# Altium schematic symbol library BASIC Devices.SCHLIB: 311 symbols
Pins are listed as number, name and electrical type; pins without a type are passive.

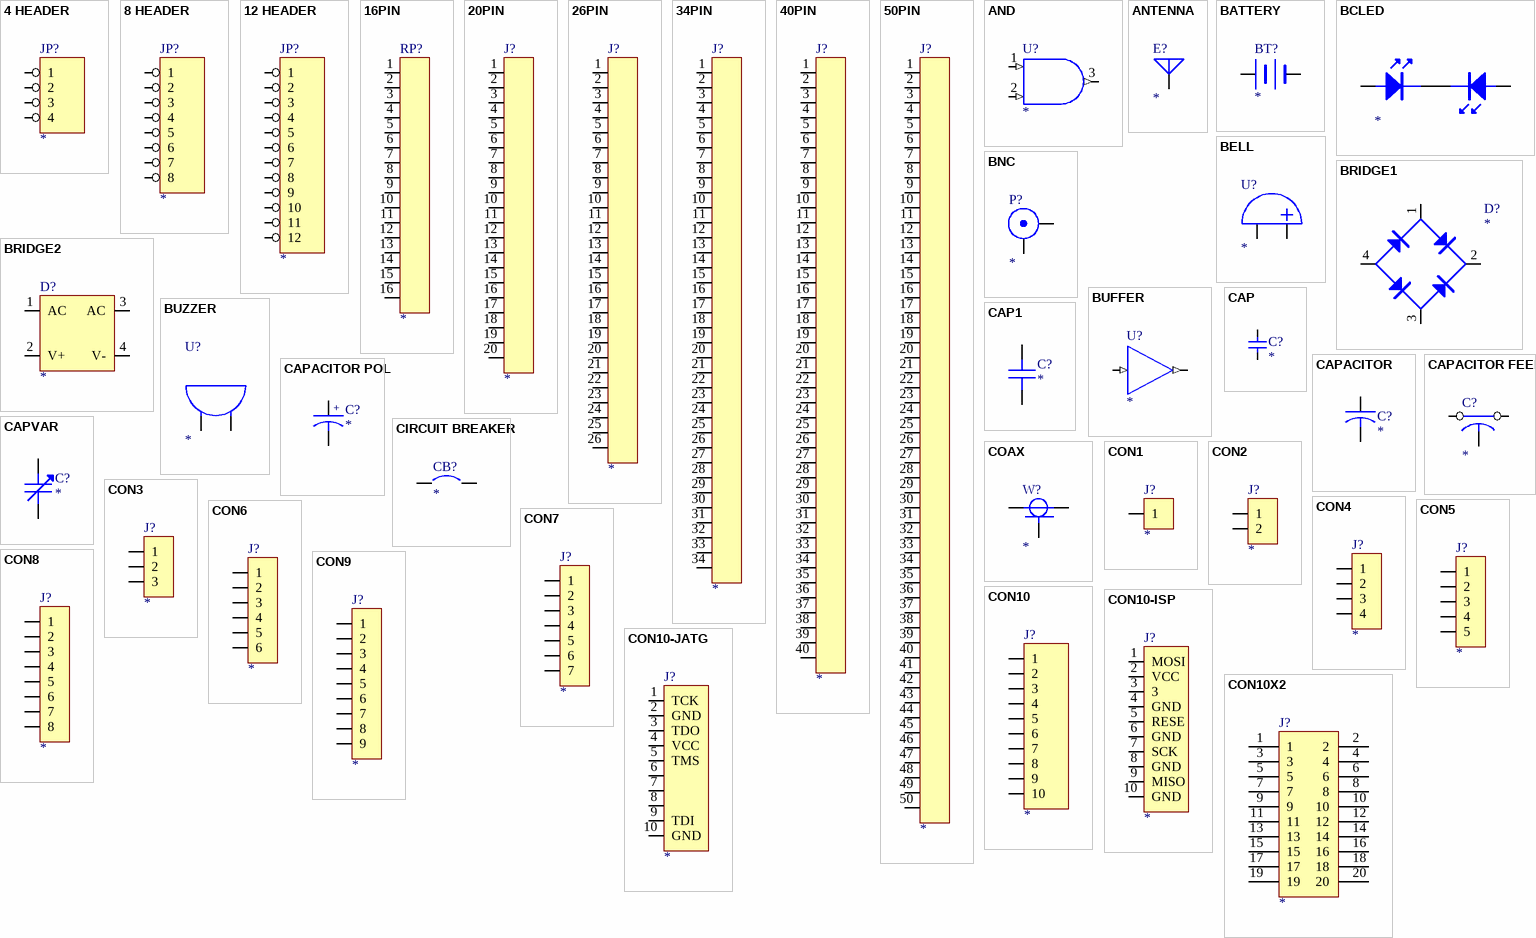
[diagram p0: symbols 4 HEADER to CON10X2]

## 4 HEADER
designator JP?
4 Pin Header
pins: 1, 2, 3, 4
2 alternate drawings of the same symbol

## 8 HEADER
designator JP?
8 Pin Header
pins: 1, 2, 3, 4, 5, 6, 7, 8
2 alternate drawings of the same symbol

## 12 HEADER
designator JP?
12 Pin Header
pins: 1, 2, 3, 4, 5, 6, 7, 8, 9, 10, 11, 12
2 alternate drawings of the same symbol

## 16PIN
designator RP?
footprint IDC16
pins: 1, 2, 3, 4, 5, 6, 7, 8, 9, 10, 11, 12, 13, 14, 15, 16
2 alternate drawings of the same symbol

## 20PIN
designator J?
footprint IDC20
pins: 1, 2, 3, 4, 5, 6, 7, 8, 9, 10, 11, 12, 13, 14, 15, 16, 17, 18, 19, 20
2 alternate drawings of the same symbol

## 26PIN
designator J?
footprint IDC26
pins: 1, 2, 3, 4, 5, 6, 7, 8, 9, 10, 11, 12, 13, 14, 15, 16, 17, 18, 19, 20, 21, 22, 23, 24, 25, 26
2 alternate drawings of the same symbol

## 34PIN
designator J?
footprint IDC34
pins: 1, 2, 3, 4, 5, 6, 7, 8, 9, 10, 11, 12, 13, 14, 15, 16, 17, 18, 19, 20, 21, 22, 23, 24, 25, 26, 27, 28, 29, 30, 31, 32, 33, 34
2 alternate drawings of the same symbol

## 40PIN
designator J?
footprint IDC40
pins: 1, 2, 3, 4, 5, 6, 7, 8, 9, 10, 11, 12, 13, 14, 15, 16, 17, 18, 19, 20, 21, 22, 23, 24, 25, 26, 27, 28, 29, 30, 31, 32, 33, 34, 35, 36, 37, 38, 39, 40
2 alternate drawings of the same symbol

## 50PIN
designator J?
footprint IDC50
pins: 1, 2, 3, 4, 5, 6, 7, 8, 9, 10, 11, 12, 13, 14, 15, 16, 17, 18, 19, 20, 21, 22, 23, 24, 25, 26, 27, 28, 29, 30, 31, 32, 33, 34, 35, 36, 37, 38, 39, 40, 41, 42, 43, 44, 45, 46, 47, 48, 49, 50
2 alternate drawings of the same symbol

## AND
designator U?
AND Gate
pins: 1 A (in), 2 B (in), 3 Y (out)
2 alternate drawings of the same symbol

## ANTENNA
designator E?
Generic Antenna
pins: 1 A
2 alternate drawings of the same symbol

## BATTERY
designator BT?
Battery
pins: 1 +, 2 -
2 alternate drawings of the same symbol

## BCLED
designator ?
pins: 1, 2, 2, 3
2 alternate drawings of the same symbol

## BELL
designator U?
Bell
footprint BELL
pins: 1 A, 2 B
2 alternate drawings of the same symbol

## BNC
designator P?
BNC Connector
pins: 1 X, 2 Y
2 alternate drawings of the same symbol

## BRIDGE1
designator D?
Diode Bridge
footprint ZLQQ1
footprint BRIDGE
pins: 1 AC, 2 V+, 3 AC, 4 V-
2 alternate drawings of the same symbol

## BRIDGE2
designator D?
Diode Bridge
footprint BRIDGE
pins: 1 AC, 2 V+, 3 AC, 4 V-
2 alternate drawings of the same symbol

## BUFFER
designator U?
Buffer
pins: 1 A (in), 2 Y (out)
2 alternate drawings of the same symbol

## BUZZER
designator U?
Buzzer
pins: 1 A, 2 B
2 alternate drawings of the same symbol

## CAP
designator C?
Capacitor
footprint CAP3
footprint CAP4
footprint 0805
footprint 1206
pins: 1, 2
2 alternate drawings of the same symbol

## CAP1
designator C?
footprint CAP3
footprint CAP4
footprint 0805
footprint 1206
pins: 1, 2
2 alternate drawings of the same symbol

## CAPACITOR
designator C?
Capacitor
pins: 1, 2
2 alternate drawings of the same symbol

## CAPACITOR FEED
designator C?
Feed-Through Capacitor
pins: 1, 2, 3
2 alternate drawings of the same symbol

## CAPACITOR POL
designator C?
Capacitor
footprint RB2/4
footprint RB3/6
footprint RB4/8
footprint RB5/10
pins: 1, 2
2 alternate drawings of the same symbol
text: +

## CAPVAR
designator C?
Variable Capacitor
pins: 1, 2
2 alternate drawings of the same symbol

## CIRCUIT BREAKER
designator CB?
Circuit Breaker
pins: 1, 2
2 alternate drawings of the same symbol

## COAX
designator W?
Coaxial
pins: 1 CENTER 1, 2 CENTER 2, 3 SHIELD
2 alternate drawings of the same symbol

## CON1
designator J?
Connector
footprint SIP1
pins: 1
2 alternate drawings of the same symbol

## CON2
designator J?
Connector
footprint SIP2
footprint SIP2D
footprint SIP2J
pins: 1, 2
2 alternate drawings of the same symbol

## CON3
designator J?
Connector
footprint SIP3
footprint SIP3J
pins: 1, 2, 3
2 alternate drawings of the same symbol

## CON4
designator J?
Connector
footprint SIP4
pins: 1, 2, 3, 4
2 alternate drawings of the same symbol

## CON5
designator J?
Connector
footprint SIP5
pins: 1, 2, 3, 4, 5
2 alternate drawings of the same symbol

## CON6
designator J?
Connector
footprint SIP6
pins: 1, 2, 3, 4, 5, 6
2 alternate drawings of the same symbol

## CON7
designator J?
Connector
footprint SIP7
pins: 1, 2, 3, 4, 5, 6, 7
2 alternate drawings of the same symbol

## CON8
designator J?
Connector
footprint SIP8
pins: 1, 2, 3, 4, 5, 6, 7, 8
2 alternate drawings of the same symbol

## CON9
designator J?
Connector
footprint SIP9
pins: 1, 2, 3, 4, 5, 6, 7, 8, 9
2 alternate drawings of the same symbol

## CON10
designator J?
Connector
footprint SIP10
pins: 1, 2, 3, 4, 5, 6, 7, 8, 9, 10
2 alternate drawings of the same symbol

## CON10-ISP
designator J?
footprint IDC10
footprint IDC10W
pins: 1 MOSI, 2 VCC, 3, 4 GND, 5 RESE, 6 GND, 7 SCK, 8 GND, 9 MISO, 10 GND
2 alternate drawings of the same symbol

## CON10-JATG
designator J?
footprint IDC10
footprint IDC10W
pins: 1 TCK, 2 GND, 3 TDO, 4 VCC, 5 TMS, 6, 7, 8, 9 TDI, 10 GND
2 alternate drawings of the same symbol

## CON10X2
designator J?
footprint IDC20J
pins: 1, 2, 3, 4, 5, 6, 7, 8, 9, 10, 11, 12, 13, 14, 15, 16, 17, 18, 19, 20
2 alternate drawings of the same symbol

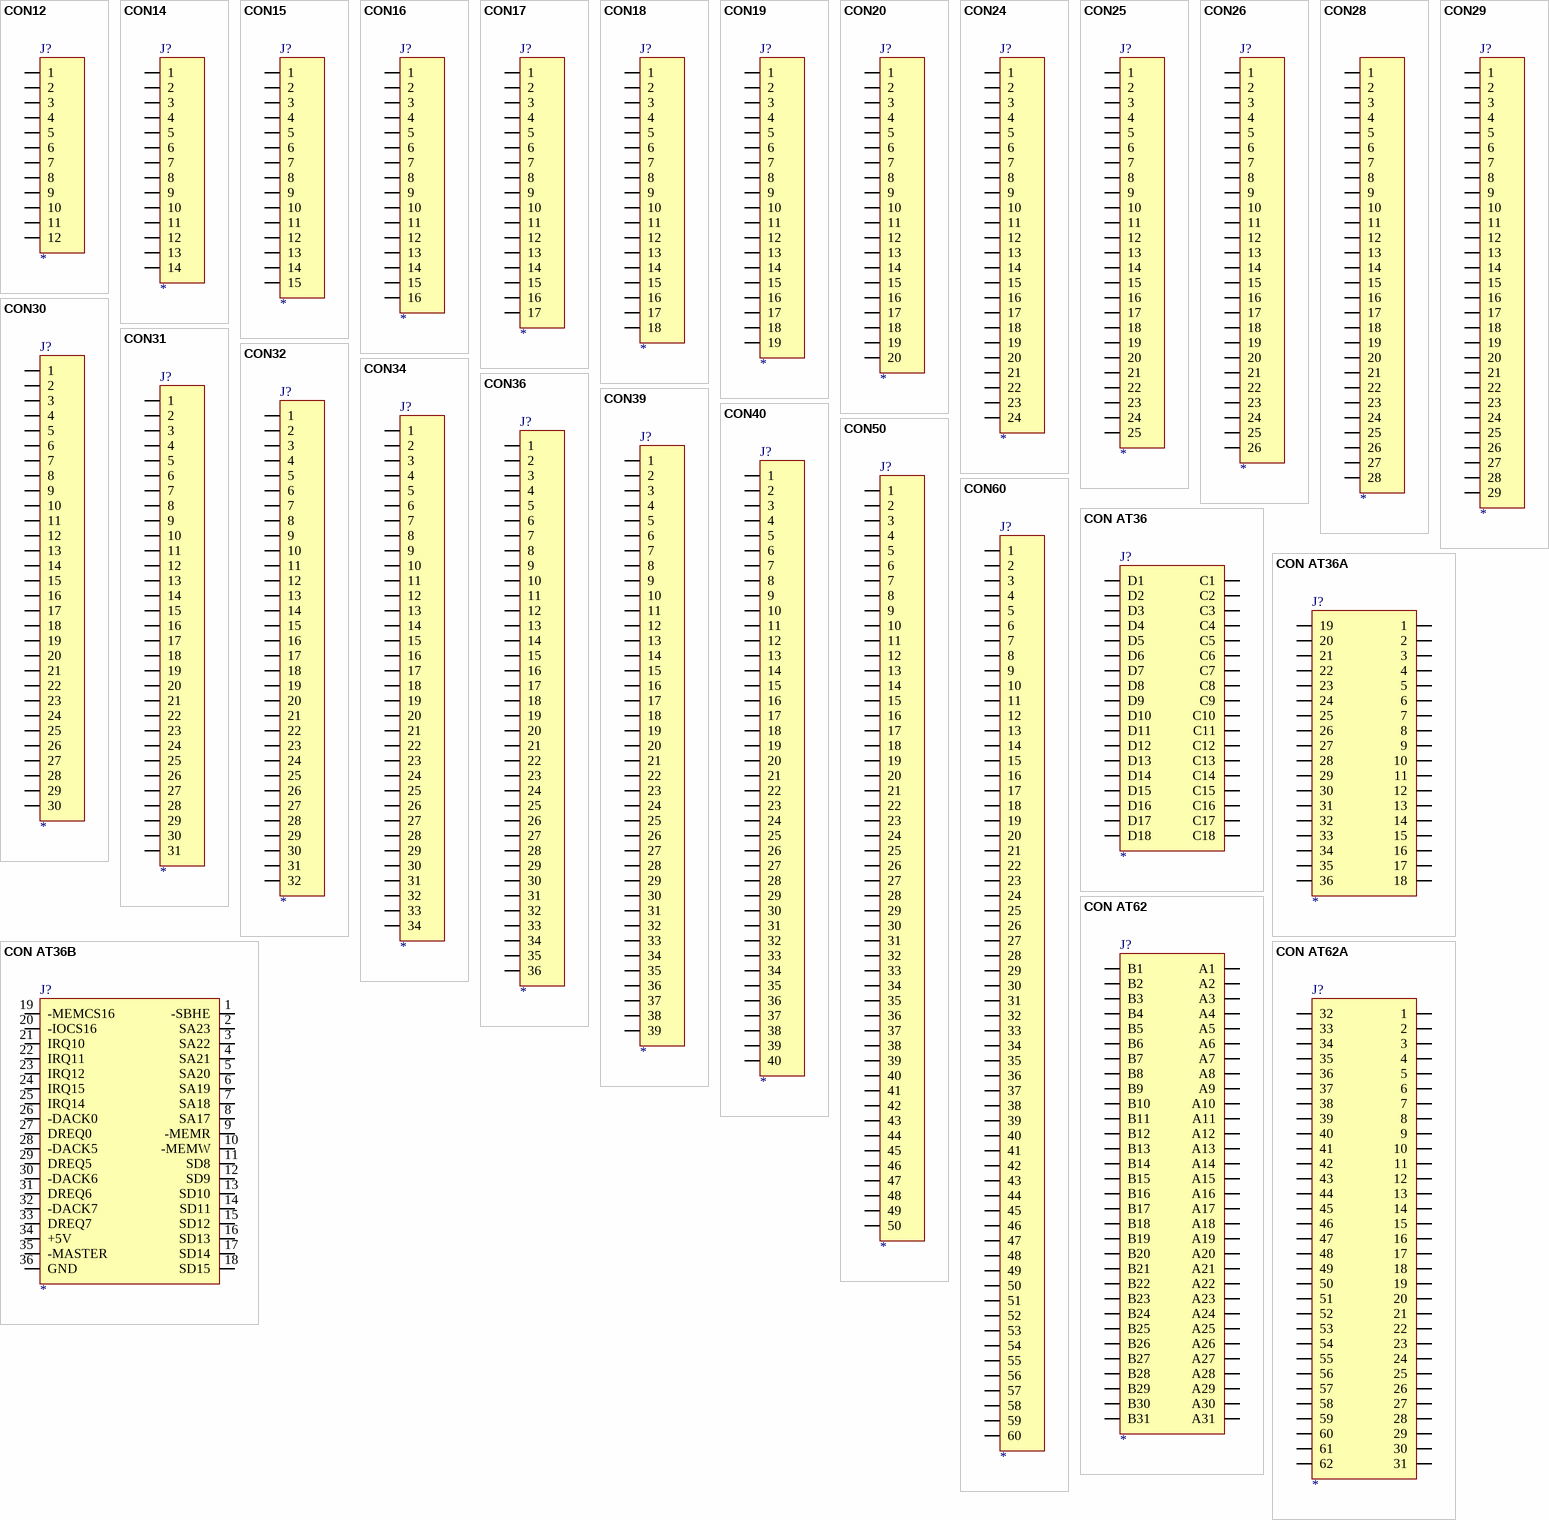
[diagram p1: symbols CON12 to CON AT62A]

## CON12
designator J?
Connector
footprint SIP12
pins: 1, 2, 3, 4, 5, 6, 7, 8, 9, 10, 11, 12
2 alternate drawings of the same symbol

## CON14
designator J?
Connector
footprint SIP14
pins: 1, 2, 3, 4, 5, 6, 7, 8, 9, 10, 11, 12, 13, 14
2 alternate drawings of the same symbol

## CON15
designator J?
Connector
footprint SIP15
pins: 1, 2, 3, 4, 5, 6, 7, 8, 9, 10, 11, 12, 13, 14, 15
2 alternate drawings of the same symbol

## CON16
designator J?
Connector
footprint SIP16
pins: 1, 2, 3, 4, 5, 6, 7, 8, 9, 10, 11, 12, 13, 14, 15, 16
2 alternate drawings of the same symbol

## CON17
designator J?
Connector
footprint SIP17
pins: 1, 2, 3, 4, 5, 6, 7, 8, 9, 10, 11, 12, 13, 14, 15, 16, 17
2 alternate drawings of the same symbol

## CON18
designator J?
Connector
footprint SIP18
pins: 1, 2, 3, 4, 5, 6, 7, 8, 9, 10, 11, 12, 13, 14, 15, 16, 17, 18
2 alternate drawings of the same symbol

## CON19
designator J?
Connector
footprint SIP19
pins: 1, 2, 3, 4, 5, 6, 7, 8, 9, 10, 11, 12, 13, 14, 15, 16, 17, 18, 19
2 alternate drawings of the same symbol

## CON20
designator J?
Connector
footprint SIP20
pins: 1, 2, 3, 4, 5, 6, 7, 8, 9, 10, 11, 12, 13, 14, 15, 16, 17, 18, 19, 20
2 alternate drawings of the same symbol

## CON24
designator J?
Connector
pins: 1, 2, 3, 4, 5, 6, 7, 8, 9, 10, 11, 12, 13, 14, 15, 16, 17, 18, 19, 20, 21, 22, 23, 24
2 alternate drawings of the same symbol

## CON25
designator J?
Connector
pins: 1, 2, 3, 4, 5, 6, 7, 8, 9, 10, 11, 12, 13, 14, 15, 16, 17, 18, 19, 20, 21, 22, 23, 24, 25
2 alternate drawings of the same symbol

## CON26
designator J?
Connector
pins: 1, 2, 3, 4, 5, 6, 7, 8, 9, 10, 11, 12, 13, 14, 15, 16, 17, 18, 19, 20, 21, 22, 23, 24, 25, 26
2 alternate drawings of the same symbol

## CON28
designator ?
pins: 1, 2, 3, 4, 5, 6, 7, 8, 9, 10, 11, 12, 13, 14, 15, 16, 17, 18, 19, 20, 21, 22, 23, 24, 25, 26, 27, 28
2 alternate drawings of the same symbol

## CON29
designator J?
Connector
pins: 1, 2, 3, 4, 5, 6, 7, 8, 9, 10, 11, 12, 13, 14, 15, 16, 17, 18, 19, 20, 21, 22, 23, 24, 25, 26, 27, 28, 29
2 alternate drawings of the same symbol

## CON30
designator J?
Connector
pins: 1, 2, 3, 4, 5, 6, 7, 8, 9, 10, 11, 12, 13, 14, 15, 16, 17, 18, 19, 20, 21, 22, 23, 24, 25, 26, 27, 28, 29, 30
2 alternate drawings of the same symbol

## CON31
designator J?
Connector
pins: 1, 2, 3, 4, 5, 6, 7, 8, 9, 10, 11, 12, 13, 14, 15, 16, 17, 18, 19, 20, 21, 22, 23, 24, 25, 26, 27, 28, 29, 30, 31
2 alternate drawings of the same symbol

## CON32
designator J?
Connector
pins: 1, 2, 3, 4, 5, 6, 7, 8, 9, 10, 11, 12, 13, 14, 15, 16, 17, 18, 19, 20, 21, 22, 23, 24, 25, 26, 27, 28, 29, 30, 31, 32
2 alternate drawings of the same symbol

## CON34
designator J?
Connector
pins: 1, 2, 3, 4, 5, 6, 7, 8, 9, 10, 11, 12, 13, 14, 15, 16, 17, 18, 19, 20, 21, 22, 23, 24, 25, 26, 27, 28, 29, 30, 31, 32, 33, 34
2 alternate drawings of the same symbol

## CON36
designator J?
Connector
pins: 1, 2, 3, 4, 5, 6, 7, 8, 9, 10, 11, 12, 13, 14, 15, 16, 17, 18, 19, 20, 21, 22, 23, 24, 25, 26, 27, 28, 29, 30, 31, 32, 33, 34, 35, 36
2 alternate drawings of the same symbol

## CON39
designator J?
Connector
pins: 1, 2, 3, 4, 5, 6, 7, 8, 9, 10, 11, 12, 13, 14, 15, 16, 17, 18, 19, 20, 21, 22, 23, 24, 25, 26, 27, 28, 29, 30, 31, 32, 33, 34, 35, 36, 37, 38, 39
2 alternate drawings of the same symbol

## CON40
designator J?
Connector
pins: 1, 2, 3, 4, 5, 6, 7, 8, 9, 10, 11, 12, 13, 14, 15, 16, 17, 18, 19, 20, 21, 22, 23, 24, 25, 26, 27, 28, 29, 30, 31, 32, 33, 34, 35, 36, 37, 38, 39, 40
2 alternate drawings of the same symbol

## CON50
designator J?
Connector
pins: 1, 2, 3, 4, 5, 6, 7, 8, 9, 10, 11, 12, 13, 14, 15, 16, 17, 18, 19, 20, 21, 22, 23, 24, 25, 26, 27, 28, 29, 30, 31, 32, 33, 34, 35, 36, 37, 38, 39, 40, 41, 42, 43, 44, 45, 46, 47, 48, 49, 50
2 alternate drawings of the same symbol

## CON60
designator J?
Connector
pins: 1, 2, 3, 4, 5, 6, 7, 8, 9, 10, 11, 12, 13, 14, 15, 16, 17, 18, 19, 20, 21, 22, 23, 24, 25, 26, 27, 28, 29, 30, 31, 32, 33, 34, 35, 36, 37, 38, 39, 40, 41, 42, 43, 44, 45, 46, 47, 48, 49, 50, 51, 52, 53, 54, 55, 56, 57, 58, 59, 60
2 alternate drawings of the same symbol

## CON AT36
designator J?
36 Pin AT Connector
pins: C1, C2, C3, C4, C5, C6, C7, C8, C9, C10, C11, C12, C13, C14, C15, C16, C17, C18, D1, D2, D3, D4, D5, D6, D7, D8, D9, D10, D11, D12, D13, D14, D15, D16, D17, D18
2 alternate drawings of the same symbol

## CON AT36A
designator J?
36 Pin AT Connector
pins: 1, 2, 3, 4, 5, 6, 7, 8, 9, 10, 11, 12, 13, 14, 15, 16, 17, 18, 19, 20, 21, 22, 23, 24, 25, 26, 27, 28, 29, 30, 31, 32, 33, 34, 35, 36
2 alternate drawings of the same symbol

## CON AT36B
designator J?
36 Pin AT Connector
pins: 1 -SBHE, 2 SA23, 3 SA22, 4 SA21, 5 SA20, 6 SA19, 7 SA18, 8 SA17, 9 -MEMR, 10 -MEMW, 11 SD8, 12 SD9, 13 SD10, 14 SD11, 15 SD12, 16 SD13, 17 SD14, 18 SD15, 19 -MEMCS16, 20 -IOCS16, 21 IRQ10, 22 IRQ11, 23 IRQ12, 24 IRQ15, 25 IRQ14, 26 -DACK0, 27 DREQ0, 28 -DACK5, 29 DREQ5, 30 -DACK6, 31 DREQ6, 32 -DACK7, 33 DREQ7, 34 +5V, 35 -MASTER, 36 GND
2 alternate drawings of the same symbol

## CON AT62
designator J?
62 Pin AT Connector
pins: A1, A2, A3, A4, A5, A6, A7, A8, A9, A10, A11, A12, A13, A14, A15, A16, A17, A18, A19, A20, A21, A22, A23, A24, A25, A26, A27, A28, A29, A30, A31, B1, B2, B3, B4, B5, B6, B7, B8, B9, B10, B11, B12, B13, B14, B15, B16, B17, B18, B19, B20, B21, B22, B23, B24, B25, B26, B27, B28, B29, B30, B31
2 alternate drawings of the same symbol

## CON AT62A
designator J?
62 Pin AT Connector
pins: 1, 2, 3, 4, 5, 6, 7, 8, 9, 10, 11, 12, 13, 14, 15, 16, 17, 18, 19, 20, 21, 22, 23, 24, 25, 26, 27, 28, 29, 30, 31, 32, 33, 34, 35, 36, 37, 38, 39, 40, 41, 42, 43, 44, 45, 46, 47, 48, 49, 50, 51, 52, 53, 54, 55, 56, 57, 58, 59, 60, 61, 62
2 alternate drawings of the same symbol

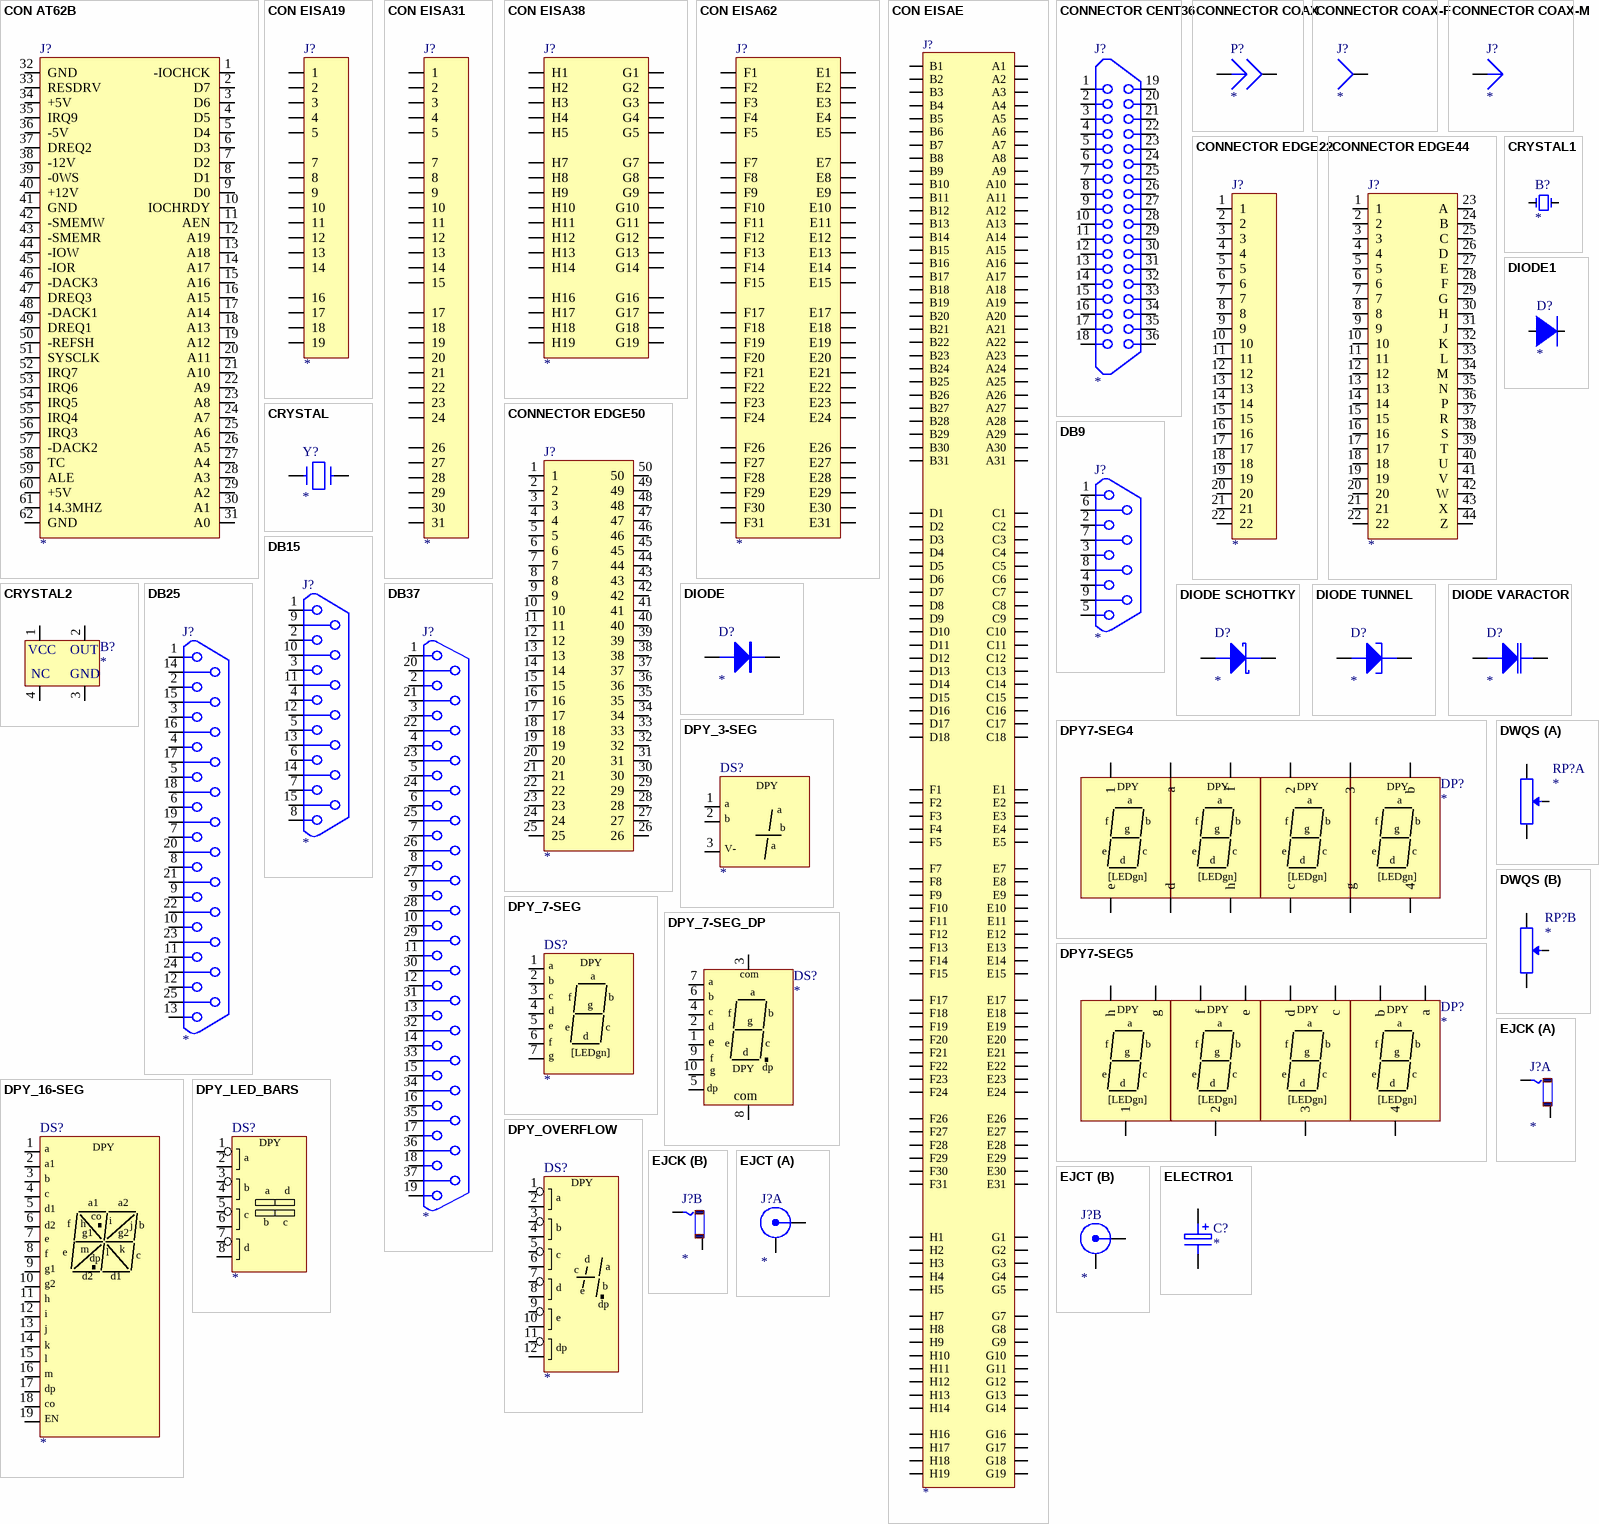
[diagram p2: symbols CON AT62B to ELECTRO1]

## CON AT62B
designator J?
62 Pin AT Connector
pins: 1 -IOCHCK, 2 D7, 3 D6, 4 D5, 5 D4, 6 D3, 7 D2, 8 D1, 9 D0, 10 IOCHRDY, 11 AEN, 12 A19, 13 A18, 14 A17, 15 A16, 16 A15, 17 A14, 18 A13, 19 A12, 20 A11, 21 A10, 22 A9, 23 A8, 24 A7, 25 A6, 26 A5, 27 A4, 28 A3, 29 A2, 30 A1, 31 A0, 32 GND, 33 RESDRV, 34 +5V, 35 IRQ9, 36 -5V, 37 DREQ2, 38 -12V, 39 -0WS, 40 +12V, 41 GND, 42 -SMEMW, 43 -SMEMR, 44 -IOW, 45 -IOR, 46 -DACK3, 47 DREQ3, 48 -DACK1, 49 DREQ1, 50 -REFSH, 51 SYSCLK, 52 IRQ7, 53 IRQ6, 54 IRQ5, 55 IRQ4, 56 IRQ3, 57 -DACK2, 58 TC, 59 ALE, 60 +5V, 61 14.3MHZ, 62 GND
2 alternate drawings of the same symbol

## CON EISA19
designator J?
19 Pin EISA Connector
pins: 1, 2, 3, 4, 5, 7, 8, 9, 10, 11, 12, 13, 14, 16, 17, 18, 19
2 alternate drawings of the same symbol

## CON EISA31
designator J?
31 Pin EISA Connector
pins: 1, 2, 3, 4, 5, 7, 8, 9, 10, 11, 12, 13, 14, 15, 17, 18, 19, 20, 21, 22, 23, 24, 26, 27, 28, 29, 30, 31
2 alternate drawings of the same symbol

## CON EISA38
designator J?
38 Pin EISA Connector; Text Field1: Pins 6, 15, 25 & 34 are not connected;
pins: 1 H1, 2 H2, 3 H3, 4 H4, 5 H5, 7 H7, 8 H8, 9 H9, 10 H10, 11 H11, 12 H12, 13 H13, 14 H14, 16 H16, 17 H17, 18 H18, 19 H19, 20 G1, 21 G2, 22 G3, 23 G4, 24 G5, 26 G7, 27 G8, 28 G9, 29 G10, 30 G11, 31 G12, 32 G13, 33 G14, 35 G16, 36 G17, 37 G18, 38 G19
2 alternate drawings of the same symbol

## CON EISA62
designator J?
62 Pin EISA Connector
pins: E1, E2, E3, E4, E5, E7, E8, E9, E10, E11, E12, E13, E14, E15, E17, E18, E19, E20, E21, E22, E23, E24, E26, E27, E28, E29, E30, E31, F1, F2, F3, F4, F5, F7, F8, F9, F10, F11, F12, F13, F14, F15, F17, F18, F19, F20, F21, F22, F23, F24, F26, F27, F28, F29, F30, F31
2 alternate drawings of the same symbol

## CON EISAE
designator J?
168 Pin EISA Connector
pins: A1, A2, A3, A4, A5, A6, A7, A8, A9, A10, A11, A12, A13, A14, A15, A16, A17, A18, A19, A20, A21, A22, A23, A24, A25, A26, A27, A28, A29, A30, A31, B1, B2, B3, B4, B5, B6, B7, B8, B9, B10, B11, B12, B13, B14, B15, B16, B17, B18, B19, B20, B21, B22, B23, B24, B25, B26, B27, B28, B29, B30, B31, C1, C2, C3, C4, C5, C6, C7, C8, C9, C10, C11, C12, C13, C14, C15, C16, C17, C18, D1, D2, D3, D4, D5, D6, D7, D8, D9, D10, D11, D12, D13, D14, D15, D16, D17, D18, E1, E2, E3, E4, E5, E7, E8, E9, E10, E11, E12, E13, E14, E15, E17, E18, E19, E20, E21, E22, E23, E24, E26, E27, E28, E29, E30, E31, F1, F2, F3, F4, F5, F7, F8, F9, F10, F11, F12, F13, F14, F15, F17, F18, F19, F20, F21, F22, F23, F24, F26, F27, F28, F29, F30, F31, G1, G2, G3, G4, G5, G7, G8, G9, G10, G11, G12, G13, G14, G16, G17, G18, G19, H1, H2, H3, H4, H5, H7, H8, H9, H10, H11, H12, H13, H14, H16, H17, H18, H19
2 alternate drawings of the same symbol

## CONNECTOR CENT36
designator J?
pins: 1, 2, 3, 4, 5, 6, 7, 8, 9, 10, 11, 12, 13, 14, 15, 16, 17, 18, 19, 20, 21, 22, 23, 24, 25, 26, 27, 28, 29, 30, 31, 32, 33, 34, 35, 36
2 alternate drawings of the same symbol

## CONNECTOR COAX
designator P?
pins: A, B
2 alternate drawings of the same symbol

## CONNECTOR COAX-F
designator J?
pins: A
2 alternate drawings of the same symbol

## CONNECTOR COAX-M
designator J?
pins: A
2 alternate drawings of the same symbol

## CONNECTOR EDGE22
designator J?
pins: 1, 2, 3, 4, 5, 6, 7, 8, 9, 10, 11, 12, 13, 14, 15, 16, 17, 18, 19, 20, 21, 22
2 alternate drawings of the same symbol

## CONNECTOR EDGE44
designator J?
pins: 1, 2, 3, 4, 5, 6, 7, 8, 9, 10, 11, 12, 13, 14, 15, 16, 17, 18, 19, 20, 21, 22, 23 A, 24 B, 25 C, 26 D, 27 E, 28 F, 29 G, 30 H, 31 J, 32 K, 33 L, 34 M, 35 N, 36 P, 37 R, 38 S, 39 T, 40 U, 41 V, 42 W, 43 X, 44 Z
2 alternate drawings of the same symbol

## CONNECTOR EDGE50
designator J?
pins: 1, 2, 3, 4, 5, 6, 7, 8, 9, 10, 11, 12, 13, 14, 15, 16, 17, 18, 19, 20, 21, 22, 23, 24, 25, 26, 27, 28, 29, 30, 31, 32, 33, 34, 35, 36, 37, 38, 39, 40, 41, 42, 43, 44, 45, 46, 47, 48, 49, 50
2 alternate drawings of the same symbol

## CRYSTAL
designator Y?
Crystal
footprint XTAL1
pins: 1, 2
2 alternate drawings of the same symbol

## CRYSTAL1
designator B?
footprint XTAL1
pins: 1, 2
2 alternate drawings of the same symbol

## CRYSTAL2
designator B?
footprint CYR
pins: 1 VCC, 2 OUT, 3 GND, 4 NC
2 alternate drawings of the same symbol

## DB9
designator J?
footprint DB9/F
footprint DB9/M
footprint DB9-SM
pins: 1 DCD, 2 RXD, 3 TXD, 4 DTR, 5 GND, 6 DSR, 7 RTS, 8 CTS, 9 DELL
2 alternate drawings of the same symbol

## DB15
designator J?
footprint DB-15/M
pins: 1, 2, 3, 4, 5, 6, 7, 8, 9, 10, 11, 12, 13, 14, 15
2 alternate drawings of the same symbol

## DB25
designator J?
footprint DB-25/M
pins: 1, 2, 3, 4, 5, 6, 7, 8, 9, 10, 11, 12, 13, 14, 15, 16, 17, 18, 19, 20, 21, 22, 23, 24, 25
2 alternate drawings of the same symbol

## DB37
designator J?
footprint DB-37/M
pins: 1, 2, 3, 4, 5, 6, 7, 8, 9, 10, 11, 12, 13, 14, 15, 16, 17, 18, 19, 20, 21, 22, 23, 24, 25, 26, 27, 28, 29, 30, 31, 32, 33, 34, 35, 36, 37
2 alternate drawings of the same symbol

## DIODE
designator D?
Diode
footprint DIODE0.4
footprint 0805P
footprint 1206D
footprint 3528D
pins: A 1, K 2
2 alternate drawings of the same symbol

## DIODE1
designator D?
footprint DIODE0.4
footprint DIODE0.7
pins: A 1, K 2
2 alternate drawings of the same symbol

## DIODE SCHOTTKY
designator D?
Schottky Diode
footprint DIODE0.4
footprint DIODE0.7
pins: 1 A, 2 K
2 alternate drawings of the same symbol

## DIODE TUNNEL
designator D?
Diode Tunnel
footprint DIODE0.4
footprint DIODE0.7
pins: 1 A, 2 K
2 alternate drawings of the same symbol

## DIODE VARACTOR
designator D?
Varactor Diode
pins: 1 A, 2 K
2 alternate drawings of the same symbol

## DPY7-SEG4
designator DP?
footprint SMG4WD
pins: 1 e, 2 d, 3 h, 4 c, 5 g, 6 4, 7 b, 8 3, 9 2, 10 f, 11 a, 12 1
2 alternate drawings of the same symbol
text: DPY; [LEDgn]

## DPY7-SEG5
designator DP?
footprint SMG4WD
pins: 1 e, 2 d, 3 h, 4 c, 5 g, 6 4, 7 b, 8 3, 9 2, 10 f, 11 a, 12 1
2 alternate drawings of the same symbol
text: DPY; [LEDgn]

## DPY_3-SEG
designator DS?
Three-Segment Display
pins: 1 x, 2 y, 3 z
2 alternate drawings of the same symbol
text: DPY; a; b; V-

## DPY_7-SEG
designator DS?
Seven-Segment Display
pins: 1 a, 2 b, 3 c, 4 d, 5 e, 6 f, 7 g
2 alternate drawings of the same symbol
text: DPY; [LEDgn]

## DPY_7-SEG_DP
designator DS?
Seven-Segment Display, Right Hand Decimal
footprint SMG
pins: 1 e, 2 d, 3 com, 4 c, 5 dp, 6 b, 7 a, 8 com, 9 f, 10 g
2 alternate drawings of the same symbol
text: DPY

## DPY_16-SEG
designator DS?
Sixteen-Segment (Alphanumeric) Display
pins: 1 a1, 2 a1, 3 b, 4 c, 5 d1, 6 d2, 7 e, 8 f, 9 g1, 10 g2, 11 h, 12 i, 13 j, 14 k, 15 l, 16 m, 17 dp, 18 co, 19 EN
2 alternate drawings of the same symbol
text: DPY; a; a2

## DPY_LED_BARS
designator DS?
LED Light Bars
pins: 1 ~{a}, 2 a, 3 ~{b}, 4 b, 5 ~{c}, 6 c, 7 ~{d}, 8 d
2 alternate drawings of the same symbol
text: DPY

## DPY_OVERFLOW
designator DS?
Overflow, Right Hand Decimal
pins: 1 ~{a}, 2 a, 3 ~{b}, 4 b, 5 ~{c}, 6 c, 7 ~{d}, 8 d, 9 ~{e}, 10 e, 11 d~{p}, 12 dp
2 alternate drawings of the same symbol
text: DPY

## DWQS
designator RP?
footprint DWQS
part A pins: 1, 2, 3
part B pins: 4, 5, 6
2 alternate drawings of the same symbol

## EJCK
designator J?
footprint EJCK
part A pins: 1, 2
part B pins: 2, 3
2 alternate drawings of the same symbol

## EJCT
designator J?
footprint SIP3
part A pins: 1 X, 2 Y
part B pins: 2 Y, 3 X
2 alternate drawings of the same symbol

## ELECTRO1
designator C?
Electrolytic Capacitor
footprint RB2/4
footprint RB3/6
footprint RB4/8
footprint RB5/10
pins: 1, 2
2 alternate drawings of the same symbol

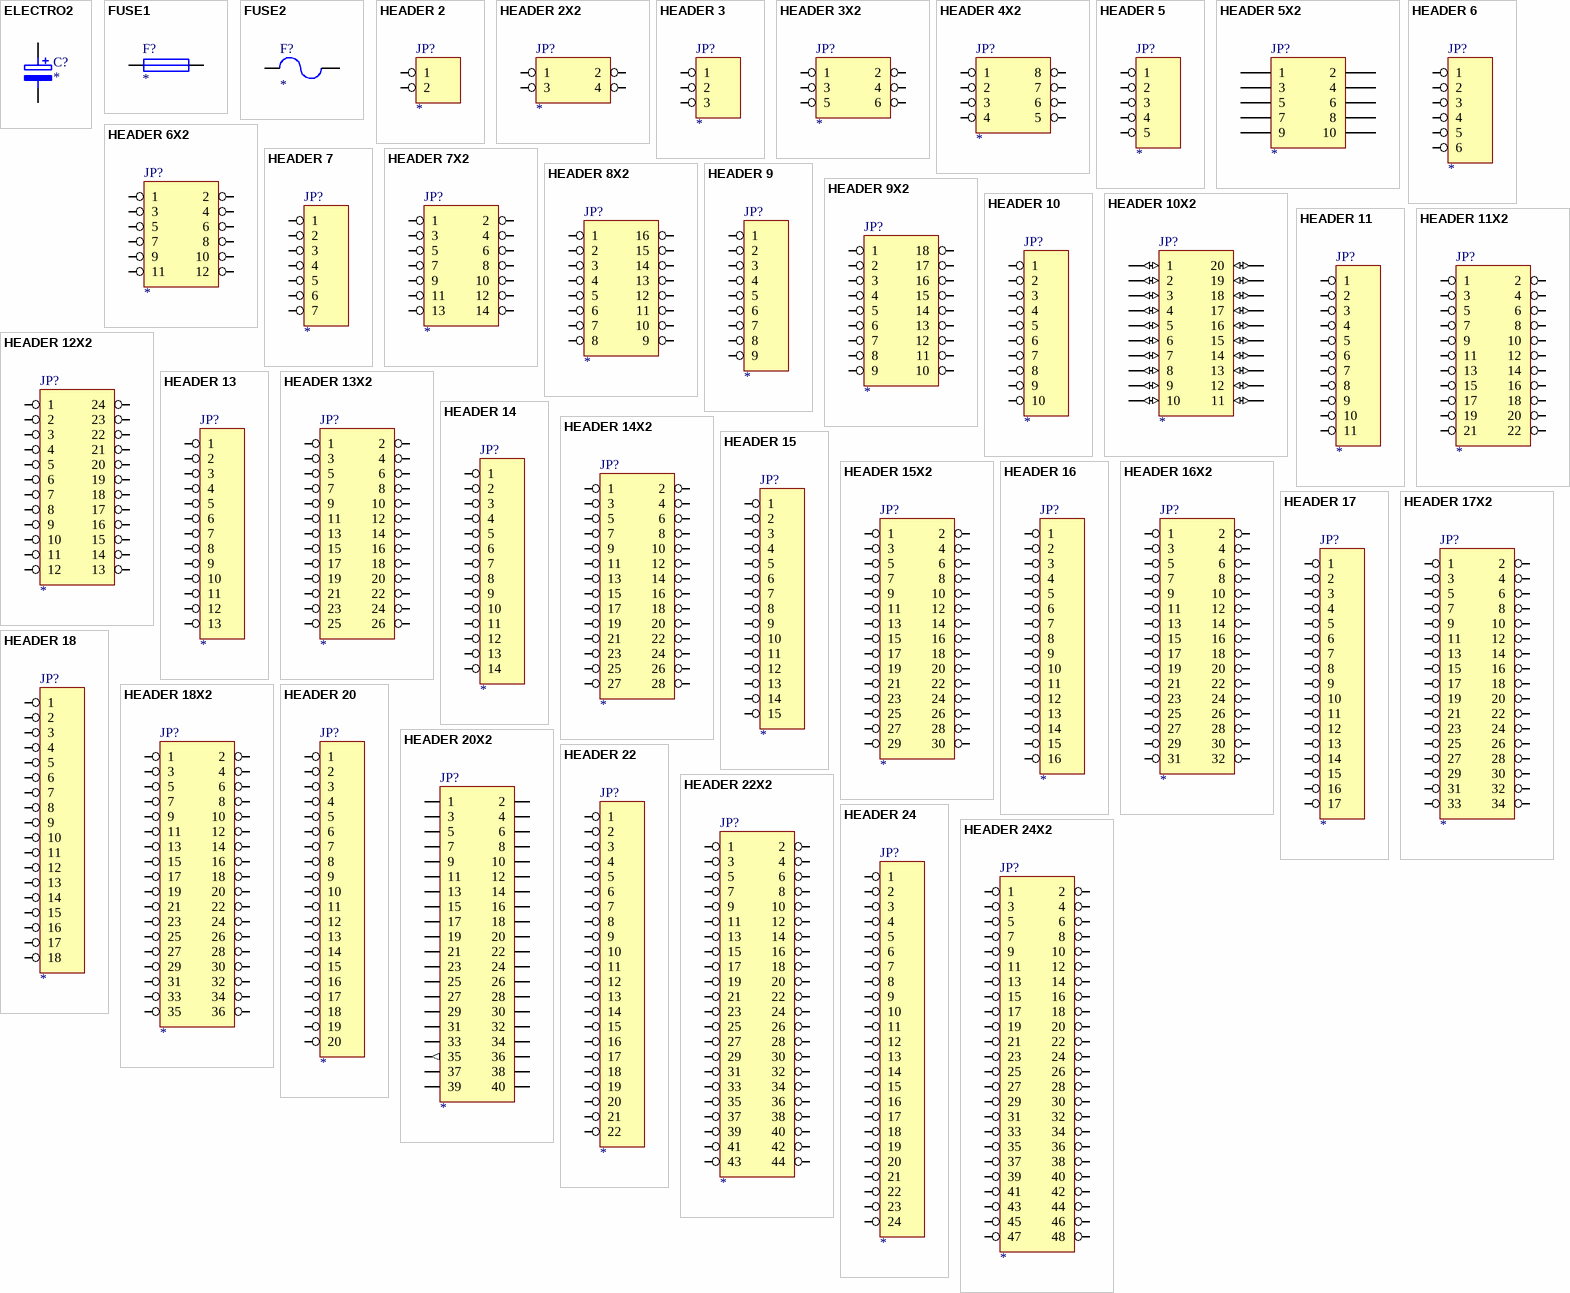
[diagram p3: symbols ELECTRO2 to HEADER 24X2]

## ELECTRO2
designator C?
Electrolytic Capacitor
footprint RB2/4
footprint RB3/6
footprint RB4/8
footprint RB5/10
pins: 1, 2
2 alternate drawings of the same symbol

## FUSE1
designator F?
Fuse
pins: 1, 2
2 alternate drawings of the same symbol

## FUSE2
designator F?
Fuse
footprint FUSED
pins: 1, 2
2 alternate drawings of the same symbol

## HEADER 2
designator JP?
pins: 1, 2
2 alternate drawings of the same symbol

## HEADER 2X2
designator JP?
pins: 1, 2, 3, 4
2 alternate drawings of the same symbol

## HEADER 3
designator JP?
pins: 1, 2, 3
2 alternate drawings of the same symbol

## HEADER 3X2
designator JP?
pins: 1, 2, 3, 4, 5, 6
2 alternate drawings of the same symbol

## HEADER 4X2
designator JP?
pins: 1, 2, 3, 4, 5, 6, 7, 8
2 alternate drawings of the same symbol

## HEADER 5
designator JP?
pins: 1, 2, 3, 4, 5
2 alternate drawings of the same symbol

## HEADER 5X2
designator JP?
pins: 1, 2, 3, 4, 5, 6, 7, 8, 9, 10
2 alternate drawings of the same symbol

## HEADER 6
designator JP?
pins: 1, 2, 3, 4, 5, 6
2 alternate drawings of the same symbol

## HEADER 6X2
designator JP?
pins: 1, 2, 3, 4, 5, 6, 7, 8, 9, 10, 11, 12
2 alternate drawings of the same symbol

## HEADER 7
designator JP?
pins: 1, 2, 3, 4, 5, 6, 7
2 alternate drawings of the same symbol

## HEADER 7X2
designator JP?
pins: 1, 2, 3, 4, 5, 6, 7, 8, 9, 10, 11, 12, 13, 14
2 alternate drawings of the same symbol

## HEADER 8X2
designator JP?
pins: 1, 2, 3, 4, 5, 6, 7, 8, 9, 10, 11, 12, 13, 14, 15, 16
2 alternate drawings of the same symbol

## HEADER 9
designator JP?
pins: 1, 2, 3, 4, 5, 6, 7, 8, 9
2 alternate drawings of the same symbol

## HEADER 9X2
designator JP?
pins: 1, 2, 3, 4, 5, 6, 7, 8, 9, 10, 11, 12, 13, 14, 15, 16, 17, 18
2 alternate drawings of the same symbol

## HEADER 10
designator JP?
pins: 1, 2, 3, 4, 5, 6, 7, 8, 9, 10
2 alternate drawings of the same symbol

## HEADER 10X2
designator JP?
footprint IDC20J
footprint IDC20
pins: 1 (io), 2 (io), 3 (io), 4 (io), 5 (io), 6 (io), 7 (io), 8 (io), 9 (io), 10 (io), 11 (io), 12 (io), 13 (io), 14 (io), 15 (io), 16 (io), 17 (io), 18 (io), 19 (io), 20 (io)
2 alternate drawings of the same symbol

## HEADER 11
designator JP?
pins: 1, 2, 3, 4, 5, 6, 7, 8, 9, 10, 11
2 alternate drawings of the same symbol

## HEADER 11X2
designator JP?
pins: 1, 2, 3, 4, 5, 6, 7, 8, 9, 10, 11, 12, 13, 14, 15, 16, 17, 18, 19, 20, 21, 22
2 alternate drawings of the same symbol

## HEADER 12X2
designator JP?
pins: 1, 2, 3, 4, 5, 6, 7, 8, 9, 10, 11, 12, 13, 14, 15, 16, 17, 18, 19, 20, 21, 22, 23, 24
2 alternate drawings of the same symbol

## HEADER 13
designator JP?
pins: 1, 2, 3, 4, 5, 6, 7, 8, 9, 10, 11, 12, 13
2 alternate drawings of the same symbol

## HEADER 13X2
designator JP?
pins: 1, 2, 3, 4, 5, 6, 7, 8, 9, 10, 11, 12, 13, 14, 15, 16, 17, 18, 19, 20, 21, 22, 23, 24, 25, 26
2 alternate drawings of the same symbol

## HEADER 14
designator JP?
pins: 1, 2, 3, 4, 5, 6, 7, 8, 9, 10, 11, 12, 13, 14
2 alternate drawings of the same symbol

## HEADER 14X2
designator JP?
pins: 1, 2, 3, 4, 5, 6, 7, 8, 9, 10, 11, 12, 13, 14, 15, 16, 17, 18, 19, 20, 21, 22, 23, 24, 25, 26, 27, 28
2 alternate drawings of the same symbol

## HEADER 15
designator JP?
pins: 1, 2, 3, 4, 5, 6, 7, 8, 9, 10, 11, 12, 13, 14, 15
2 alternate drawings of the same symbol

## HEADER 15X2
designator JP?
pins: 1, 2, 3, 4, 5, 6, 7, 8, 9, 10, 11, 12, 13, 14, 15, 16, 17, 18, 19, 20, 21, 22, 23, 24, 25, 26, 27, 28, 29, 30
2 alternate drawings of the same symbol

## HEADER 16
designator JP?
pins: 1, 2, 3, 4, 5, 6, 7, 8, 9, 10, 11, 12, 13, 14, 15, 16
2 alternate drawings of the same symbol

## HEADER 16X2
designator JP?
pins: 1, 2, 3, 4, 5, 6, 7, 8, 9, 10, 11, 12, 13, 14, 15, 16, 17, 18, 19, 20, 21, 22, 23, 24, 25, 26, 27, 28, 29, 30, 31, 32
2 alternate drawings of the same symbol

## HEADER 17
designator JP?
pins: 1, 2, 3, 4, 5, 6, 7, 8, 9, 10, 11, 12, 13, 14, 15, 16, 17
2 alternate drawings of the same symbol

## HEADER 17X2
designator JP?
pins: 1, 2, 3, 4, 5, 6, 7, 8, 9, 10, 11, 12, 13, 14, 15, 16, 17, 18, 19, 20, 21, 22, 23, 24, 25, 26, 27, 28, 29, 30, 31, 32, 33, 34
2 alternate drawings of the same symbol

## HEADER 18
designator JP?
pins: 1, 2, 3, 4, 5, 6, 7, 8, 9, 10, 11, 12, 13, 14, 15, 16, 17, 18
2 alternate drawings of the same symbol

## HEADER 18X2
designator JP?
pins: 1, 2, 3, 4, 5, 6, 7, 8, 9, 10, 11, 12, 13, 14, 15, 16, 17, 18, 19, 20, 21, 22, 23, 24, 25, 26, 27, 28, 29, 30, 31, 32, 33, 34, 35, 36
2 alternate drawings of the same symbol

## HEADER 20
designator JP?
pins: 1, 2, 3, 4, 5, 6, 7, 8, 9, 10, 11, 12, 13, 14, 15, 16, 17, 18, 19, 20
2 alternate drawings of the same symbol

## HEADER 20X2
designator JP?
pins: 1, 2, 3, 4, 5, 6, 7, 8, 9, 10, 11, 12, 13, 14, 15, 16, 17, 18, 19, 20, 21, 22, 23, 24, 25, 26, 27, 28, 29 (io), 30, 31, 32, 33, 34, 35 (out), 36, 37, 38, 39, 40
2 alternate drawings of the same symbol

## HEADER 22
designator JP?
pins: 1, 2, 3, 4, 5, 6, 7, 8, 9, 10, 11, 12, 13, 14, 15, 16, 17, 18, 19, 20, 21, 22
2 alternate drawings of the same symbol

## HEADER 22X2
designator JP?
pins: 1, 2, 3, 4, 5, 6, 7, 8, 9, 10, 11, 12, 13, 14, 15, 16, 17, 18, 19, 20, 21, 22, 23, 24, 25, 26, 27, 28, 29, 30, 31, 32, 33, 34, 35, 36, 37, 38, 39, 40, 41, 42, 43, 44
2 alternate drawings of the same symbol

## HEADER 24
designator JP?
pins: 1, 2, 3, 4, 5, 6, 7, 8, 9, 10, 11, 12, 13, 14, 15, 16, 17, 18, 19, 20, 21, 22, 23, 24
2 alternate drawings of the same symbol

## HEADER 24X2
designator JP?
pins: 1, 2, 3, 4, 5, 6, 7, 8, 9, 10, 11, 12, 13, 14, 15, 16, 17, 18, 19, 20, 21, 22, 23, 24, 25, 26, 27, 28, 29, 30, 31, 32, 33, 34, 35, 36, 37, 38, 39, 40, 41, 42, 43, 44, 45, 46, 47, 48
2 alternate drawings of the same symbol

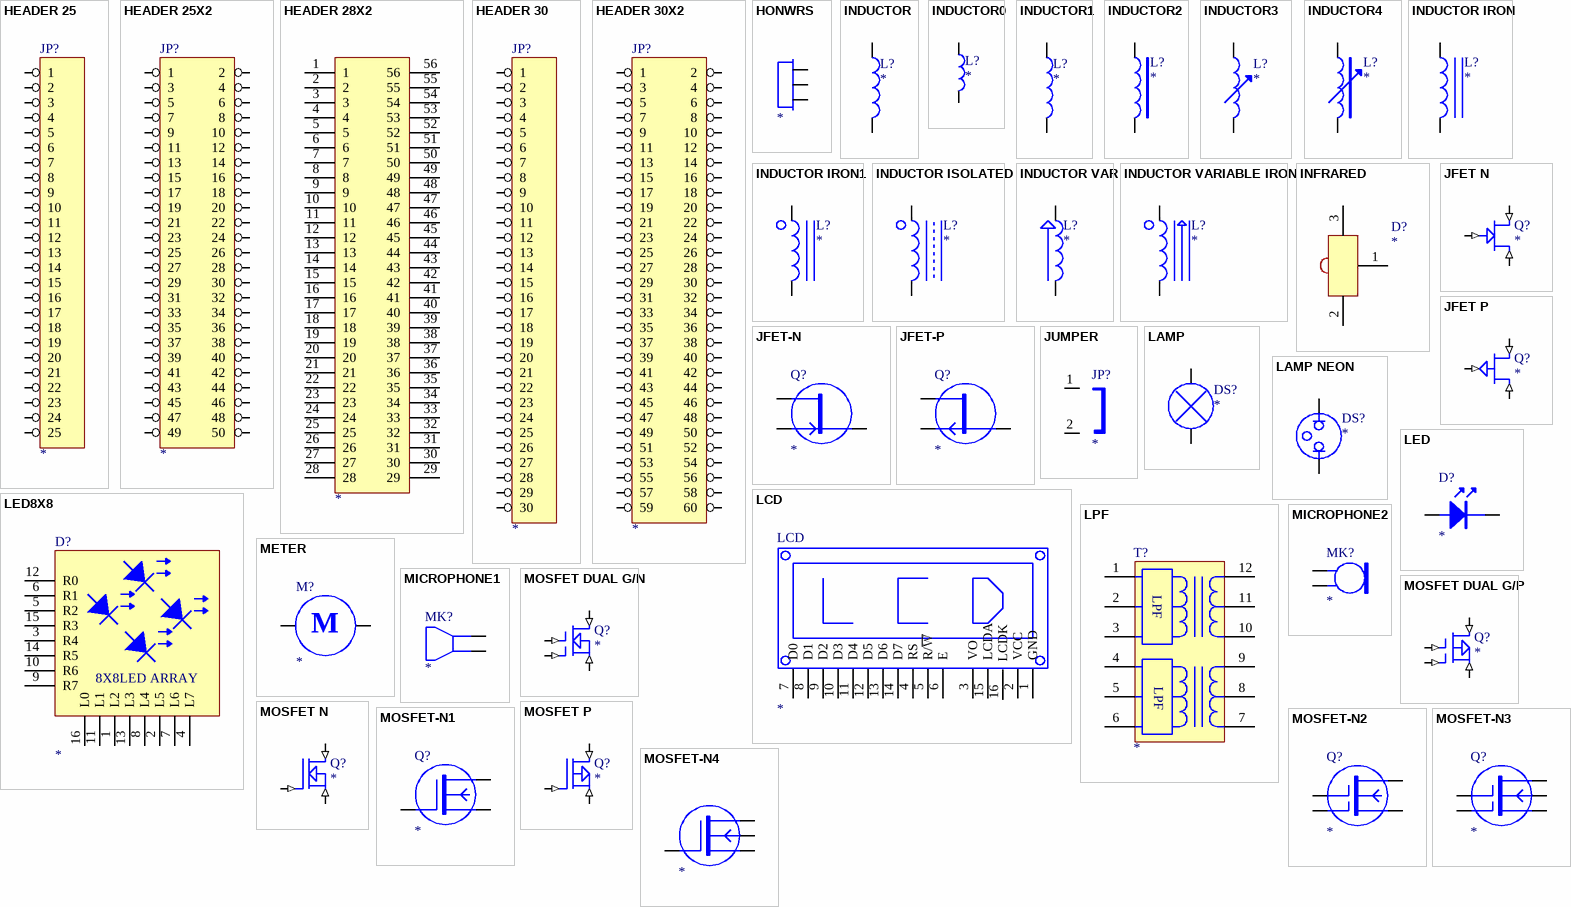
[diagram p4: symbols HEADER 25 to MOSFET-N4]

## HEADER 25
designator JP?
pins: 1, 2, 3, 4, 5, 6, 7, 8, 9, 10, 11, 12, 13, 14, 15, 16, 17, 18, 19, 20, 21, 22, 23, 24, 25
2 alternate drawings of the same symbol

## HEADER 25X2
designator JP?
pins: 1, 2, 3, 4, 5, 6, 7, 8, 9, 10, 11, 12, 13, 14, 15, 16, 17, 18, 19, 20, 21, 22, 23, 24, 25, 26, 27, 28, 29, 30, 31, 32, 33, 34, 35, 36, 37, 38, 39, 40, 41, 42, 43, 44, 45, 46, 47, 48, 49, 50
2 alternate drawings of the same symbol

## HEADER 28X2
designator ?
pins: 1, 2, 3, 4, 5, 6, 7, 8, 9, 10, 11, 12, 13, 14, 15, 16, 17, 18, 19, 20, 21, 22, 23, 24, 25, 26, 27, 28, 29, 30, 31, 32, 33, 34, 35, 36, 37, 38, 39, 40, 41, 42, 43, 44, 45, 46, 47, 48, 49, 50, 51, 52, 53, 54, 55, 56
2 alternate drawings of the same symbol

## HEADER 30
designator JP?
pins: 1, 2, 3, 4, 5, 6, 7, 8, 9, 10, 11, 12, 13, 14, 15, 16, 17, 18, 19, 20, 21, 22, 23, 24, 25, 26, 27, 28, 29, 30
2 alternate drawings of the same symbol

## HEADER 30X2
designator JP?
pins: 1, 2, 3, 4, 5, 6, 7, 8, 9, 10, 11, 12, 13, 14, 15, 16, 17, 18, 19, 20, 21, 22, 23, 24, 25, 26, 27, 28, 29, 30, 31, 32, 33, 34, 35, 36, 37, 38, 39, 40, 41, 42, 43, 44, 45, 46, 47, 48, 49, 50, 51, 52, 53, 54, 55, 56, 57, 58, 59, 60
2 alternate drawings of the same symbol

## HONWRS
designator ?
pins: 1 D, 2 S, 3 E
2 alternate drawings of the same symbol

## INDUCTOR
designator L?
pins: 1, 2
2 alternate drawings of the same symbol

## INDUCTOR0
designator L?
footprint AXIAL0.4
footprint AXIAL0.3
footprint 0805
footprint 1210
pins: 1, 2
2 alternate drawings of the same symbol

## INDUCTOR1
designator L?
footprint AXIAL0.4
footprint AXIAL0.3
footprint 0805
footprint 1210
pins: 1, 2
2 alternate drawings of the same symbol

## INDUCTOR2
designator L?
pins: 1, 2
2 alternate drawings of the same symbol

## INDUCTOR3
designator L?
pins: 1, 2
2 alternate drawings of the same symbol

## INDUCTOR4
designator L?
pins: 1, 2
2 alternate drawings of the same symbol

## INDUCTOR IRON
designator L?
pins: 1, 2
2 alternate drawings of the same symbol

## INDUCTOR IRON1
designator L?
pins: 1, 2
2 alternate drawings of the same symbol

## INDUCTOR ISOLATED
designator L?
pins: 1, 2
2 alternate drawings of the same symbol

## INDUCTOR VAR
designator L?
pins: 1, 2
2 alternate drawings of the same symbol

## INDUCTOR VARIABLE IRON
designator L?
pins: 1, 2
2 alternate drawings of the same symbol

## INFRARED
designator D?
footprint SIP3
pins: 1 OUT, 2 GND, 3 VCC
2 alternate drawings of the same symbol

## JFET N
designator Q?
pins: 1 G (in), 2 D (in), 3 S (in)
2 alternate drawings of the same symbol

## JFET P
designator Q?
pins: 1 G (in), 2 D (in), 3 S (in)
2 alternate drawings of the same symbol

## JFET-N
designator Q?
pins: 1 D, 2 G, 3 S
2 alternate drawings of the same symbol

## JFET-P
designator Q?
pins: 1 D, 2 G, 3 S
2 alternate drawings of the same symbol

## JUMPER
designator JP?
Jumper
footprint RAD0.2
pins: 1, 2
2 alternate drawings of the same symbol

## LAMP
designator DS?
pins: 1, 2
2 alternate drawings of the same symbol

## LAMP NEON
designator DS?
pins: 1, 2
2 alternate drawings of the same symbol

## LCD
designator LCD
footprint LCD
pins: 1 GND, 2 VCC, 3 VO, 4 RS, 5 R/~{W}, 6 E, 7 D0, 8 D1, 9 D2, 10 D3, 11 D4, 12 D5, 13 D6, 14 D7, 15 LCDA, 16 LCDK
2 alternate drawings of the same symbol

## LED
designator D?
footprint LED3
footprint LED5
footprint 0805D
footprint 1206D
pins: A, K
2 alternate drawings of the same symbol

## LED8X8
designator D?
footprint 8X8LED
pins: 1 L2, 2 L5, 3 R4, 4 L7, 5 R2, 6 R1, 7 L6, 8 L4, 9 R7, 10 R6, 11 L1, 12 R0, 13 L3, 14 R5, 15 R3, 16 L0
2 alternate drawings of the same symbol
text: 8X8LED ARRAY

## LPF
designator T?
pins: 1, 2, 3, 4, 5, 6, 7, 8, 9, 10, 11, 12
2 alternate drawings of the same symbol

## METER
designator M?
pins: 1, 2
2 alternate drawings of the same symbol
text: M

## MICROPHONE1
designator MK?
Microphone
pins: 1, 2
2 alternate drawings of the same symbol

## MICROPHONE2
designator MK?
Microphone
footprint SIP2
footprint RAD0.2
pins: 1, 2
2 alternate drawings of the same symbol

## MOSFET DUAL G/N
designator Q?
pins: 1 G1 (in), 2 G2 (in), 3 D (in), 4 S (in)
2 alternate drawings of the same symbol

## MOSFET DUAL G/P
designator Q?
pins: 1 G1 (in), 2 G2 (in), 3 D (in), 4 S (in)
2 alternate drawings of the same symbol

## MOSFET N
designator Q?
pins: 1 G (in), 2 D (in), 3 S (in)
2 alternate drawings of the same symbol

## MOSFET P
designator Q?
pins: 1 G (in), 2 D (in), 3 S (in)
2 alternate drawings of the same symbol

## MOSFET-N1
designator Q?
pins: 1 G, 2 D, 3 S
2 alternate drawings of the same symbol

## MOSFET-N2
designator Q?
pins: 1 G1, 2 G2, 3 D, 4 S
2 alternate drawings of the same symbol

## MOSFET-N3
designator Q?
pins: 1 G1, 2 G2, 3 D, 4 U, 5 S
2 alternate drawings of the same symbol

## MOSFET-N4
designator ?
pins: 1 G, 2 D, 3 U, 4 S
2 alternate drawings of the same symbol

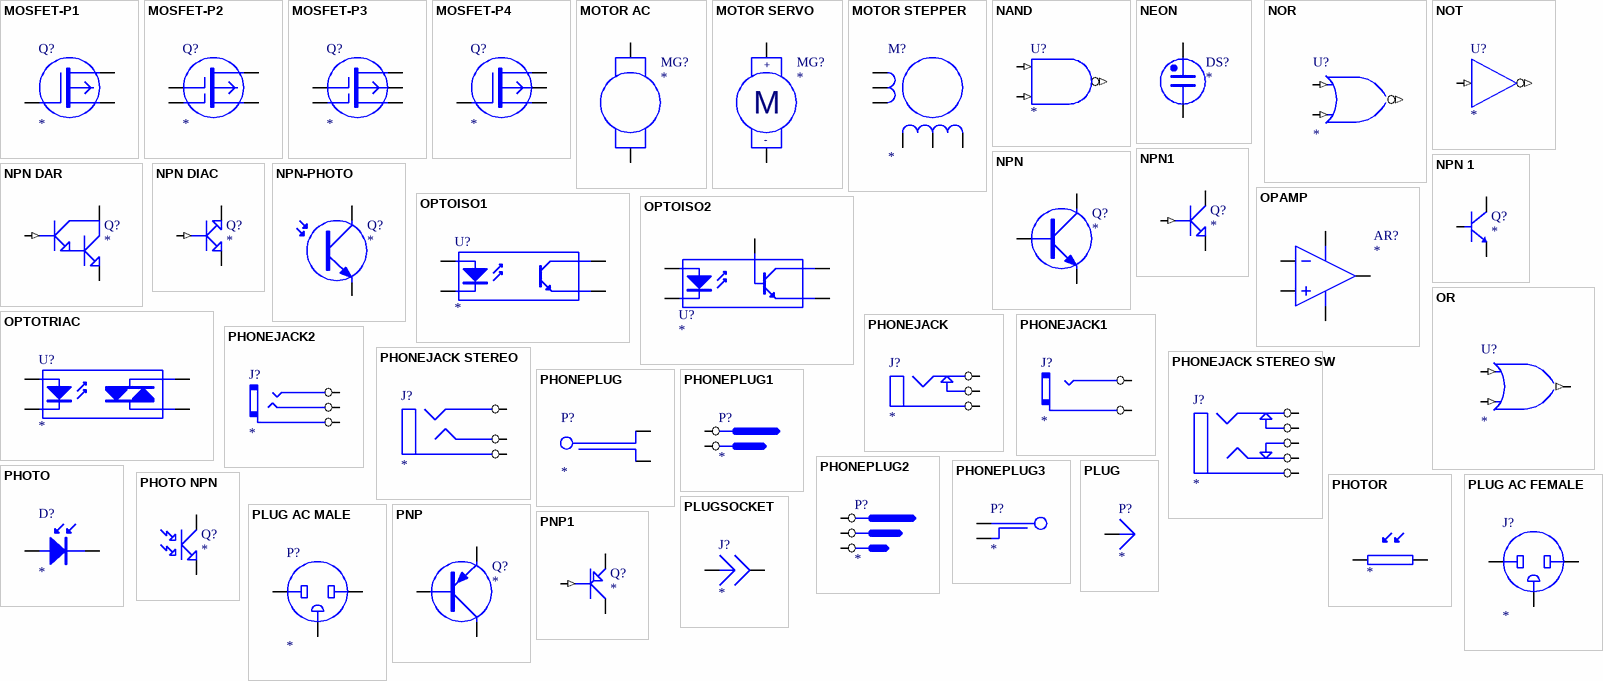
[diagram p5: symbols MOSFET-P1 to PNP1]

## MOSFET-P1
designator Q?
pins: 1 G, 2 D, 3 S
2 alternate drawings of the same symbol

## MOSFET-P2
designator Q?
pins: 1 G1, 2 G2, 3 D, 4 S
2 alternate drawings of the same symbol

## MOSFET-P3
designator Q?
pins: 1 G1, 2 G2, 3 D, 4 U, 5 S
2 alternate drawings of the same symbol

## MOSFET-P4
designator Q?
pins: 1 G, 2 D, 3 U, 4 S
2 alternate drawings of the same symbol

## MOTOR AC
designator MG?
pins: 1, 2
2 alternate drawings of the same symbol

## MOTOR SERVO
designator MG?
pins: 1 +, 2 -
2 alternate drawings of the same symbol
text: M

## MOTOR STEPPER
designator M?
pins: 1, 2, 3, 4, 5, 6
2 alternate drawings of the same symbol

## NAND
designator U?
NAND Gate
pins: 1 A (in), 2 B (in), 3 Y (out)
2 alternate drawings of the same symbol

## NEON
designator DS?
pins: 1, 2
2 alternate drawings of the same symbol

## NOR
designator U?
NOR Gate
pins: 1 A (in), 2 B (in), 3 Y (out)
2 alternate drawings of the same symbol

## NOT
designator U?
Inverter
pins: 1 A (in), 2 Y (out)
2 alternate drawings of the same symbol

## NPN
designator Q?
NPN Transistor
footprint TO-92C
footprint TO-92A
footprint TO-92B
footprint SOT-23B
pins: 1 E, 2 B, 3 C
2 alternate drawings of the same symbol

## NPN1
designator Q?
NPN Transistor
pins: 1 B (in), 2 C, 3 E
2 alternate drawings of the same symbol

## NPN 1
designator Q?
footprint TO-92C
footprint TO-92A
footprint TO-92B
footprint SOT-23B
pins: 1 e, 2 b, 3 c
2 alternate drawings of the same symbol

## NPN DAR
designator Q?
NPN Darlington Transistor
pins: 1 B (in), 2 C, 3 E
2 alternate drawings of the same symbol

## NPN DIAC
designator Q?
pins: 1 B (in), 2 C, 3 E
2 alternate drawings of the same symbol

## NPN-PHOTO
designator Q?
pins: 1 C, 2 E
2 alternate drawings of the same symbol

## OPAMP
designator AR?
Operational Amplifier
pins: 1 IN-, 2 IN+, 3 OUT, 4 V+, 5 V-
2 alternate drawings of the same symbol

## OPTOISO1
designator U?
Optoisolator
footprint DIP4
pins: 1 A, 2 K, 3 E, 4 C
2 alternate drawings of the same symbol

## OPTOISO2
designator U?
Optoisolator
pins: 1 A, 2 K, 3 B, 4 C, 5 E
2 alternate drawings of the same symbol

## OPTOTRIAC
designator U?
pins: 1 A, 2 K, 3 A/K, 4 A/K
2 alternate drawings of the same symbol

## OR
designator U?
OR Gate
pins: 1 A (in), 2 B (in), 3 Y (out)
2 alternate drawings of the same symbol

## PHONEJACK
designator J?
footprint POWER-B
footprint POWER-S
pins: 1 A, 2 B, 3 C
2 alternate drawings of the same symbol

## PHONEJACK1
designator J?
pins: 1 A, 2 B
2 alternate drawings of the same symbol

## PHONEJACK2
designator J?
footprint ERPHONE-A
footprint ERPHONE-B
footprint ERPHONE-C
footprint ERPHONE-D
pins: 1 A, 2 B, 3 C
2 alternate drawings of the same symbol

## PHONEJACK STEREO
designator J?
footprint ERPHONE-A
footprint ERPHONE-B
footprint ERPHONE-C
footprint ERPHONE-D
pins: 1 A, 2 B, 3 C
2 alternate drawings of the same symbol

## PHONEJACK STEREO SW
designator J?
footprint ERPHONE-C
pins: 1 A, 2 B, 3 C, 4 D, 5 E
2 alternate drawings of the same symbol

## PHONEPLUG
designator P?
pins: 1 A, 2 B
2 alternate drawings of the same symbol

## PHONEPLUG1
designator P?
pins: 1 A, 2 B
2 alternate drawings of the same symbol

## PHONEPLUG2
designator P?
pins: 1 A, 2 B, 3 C
2 alternate drawings of the same symbol

## PHONEPLUG3
designator P?
pins: 1 A, 2 B
2 alternate drawings of the same symbol

## PHOTO
designator D?
Photosensitive Diode
footprint SIP2
pins: 1 A, 2 K
2 alternate drawings of the same symbol

## PHOTO NPN
designator Q?
NPN Phototransistor
pins: 1 C, 2 E
2 alternate drawings of the same symbol

## PHOTOR
designator ?
footprint SIP2
pins: 1, 2
2 alternate drawings of the same symbol

## PLUG
designator P?
pins: 1
2 alternate drawings of the same symbol

## PLUG AC FEMALE
designator J?
pins: 1 A, 2 B, 3 GND
2 alternate drawings of the same symbol

## PLUG AC MALE
designator P?
pins: 1 A, 2 B, 3 GND
2 alternate drawings of the same symbol

## PLUGSOCKET
designator J?
pins: 1, 2
2 alternate drawings of the same symbol

## PNP
designator Q?
PNP Transistor
footprint TO-92C
footprint TO-92A
footprint TO-92B
pins: 1 E, 2 B, 3 C
2 alternate drawings of the same symbol

## PNP1
designator Q?
PNP Transistor
pins: 1 B (in), 2 E, 3 C
2 alternate drawings of the same symbol

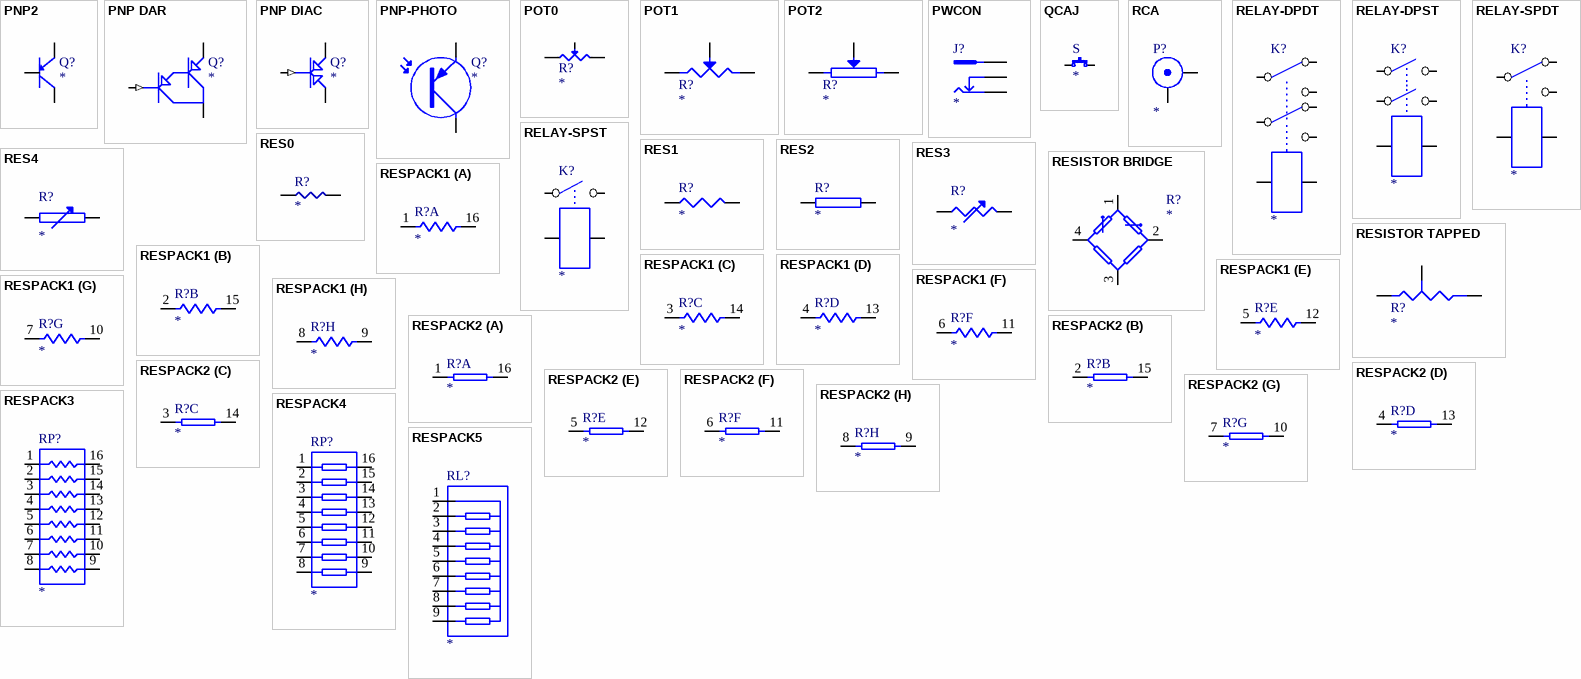
[diagram p6: symbols PNP2 to RESPACK5]

## PNP2
designator Q?
footprint TO-92C
footprint TO-92A
footprint TO-92B
footprint SOT-23B
pins: 1, 2, 3
2 alternate drawings of the same symbol

## PNP DAR
designator Q?
PNP Darlington Transistor
pins: 1 E, 2 C, 3 B (in)
2 alternate drawings of the same symbol

## PNP DIAC
designator Q?
pins: 1 B (in), 2 E, 3 C
2 alternate drawings of the same symbol

## PNP-PHOTO
designator Q?
pins: C, E
2 alternate drawings of the same symbol

## POT0
designator R?
Potentiometer
footprint VR6
footprint VR4
footprint VR3
footprint VR2
pins: 1, 2, 3
2 alternate drawings of the same symbol

## POT1
designator R?
Potentiometer
footprint VR6
footprint VR4
footprint VR3
footprint VR2
pins: 1, 2, 3 W
2 alternate drawings of the same symbol

## POT2
designator R?
Potentiometer
footprint VR6
footprint DWQD
pins: 1, 2, 3
2 alternate drawings of the same symbol

## PWCON
designator J?
footprint DYCK
pins: 1, 2, 3
2 alternate drawings of the same symbol

## QCAJ
designator S
footprint QCAJ
pins: 1, 2
2 alternate drawings of the same symbol

## RCA
designator P?
RCA Connector
pins: 1 X, 2 Y
2 alternate drawings of the same symbol

## RELAY-DPDT
designator K?
footprint JDQ2
pins: 1, 2, 3, 4, 5, 6, 7, 8
2 alternate drawings of the same symbol

## RELAY-DPST
designator K?
footprint JDQ1
footprint JDQ2
footprint JDQ3
footprint JDQ4
pins: 2 1, 2, 3, 4, 5, 6
2 alternate drawings of the same symbol

## RELAY-SPDT
designator K?
footprint JDQ1
footprint JDQ3
footprint JDQ4
pins: 1, 2, 3, 4, 5
2 alternate drawings of the same symbol

## RELAY-SPST
designator K?
footprint JDQ1
footprint JDQ3
footprint JDQ4
pins: 1, 2, 3, 4
2 alternate drawings of the same symbol

## RES0
designator R?
footprint AXIAL0.4
footprint AXIAL0.3
footprint 0805
footprint 1206
pins: 1, 2
2 alternate drawings of the same symbol

## RES1
designator R?
footprint AXIAL0.4
footprint AXIAL0.3
footprint 0805
footprint 1206
pins: 1, 2
2 alternate drawings of the same symbol

## RES2
designator R?
footprint AXIAL0.4
footprint AXIAL0.5
footprint 0805
footprint 1206
pins: 1, 2
2 alternate drawings of the same symbol

## RES3
designator R?
pins: 1, 2
2 alternate drawings of the same symbol

## RES4
designator R?
pins: 1, 2
2 alternate drawings of the same symbol

## RESISTOR BRIDGE
designator R?
Resistor Bridge
pins: 1, 2, 3, 4
2 alternate drawings of the same symbol

## RESISTOR TAPPED
designator R?
pins: 1 A, 2 B, 3 TAP
2 alternate drawings of the same symbol

## RESPACK1
designator R?
footprint DIP-16
part A pins: 1, 16
part B pins: 2, 15
part C pins: 3, 14
part D pins: 4, 13
part E pins: 5, 12
part F pins: 6, 11
part G pins: 7, 10
part H pins: 8, 9
2 alternate drawings of the same symbol

## RESPACK2
designator R?
footprint DIP-16
part A pins: 1, 16
part B pins: 2, 15
part C pins: 3, 14
part D pins: 4, 13
part E pins: 5, 12
part F pins: 6, 11
part G pins: 7, 10
part H pins: 8, 9
2 alternate drawings of the same symbol

## RESPACK3
designator RP?
footprint DIP-16
pins: 1, 2, 3, 4, 5, 6, 7, 8, 9, 10, 11, 12, 13, 14, 15, 16
2 alternate drawings of the same symbol

## RESPACK4
designator RP?
footprint DIP-16
pins: 1, 2, 3, 4, 5, 6, 7, 8, 9, 10, 11, 12, 13, 14, 15, 16
2 alternate drawings of the same symbol

## RESPACK5
designator RL?
footprint SIP9
pins: 1, 2, 3, 4, 5, 6, 7, 8, 9
2 alternate drawings of the same symbol

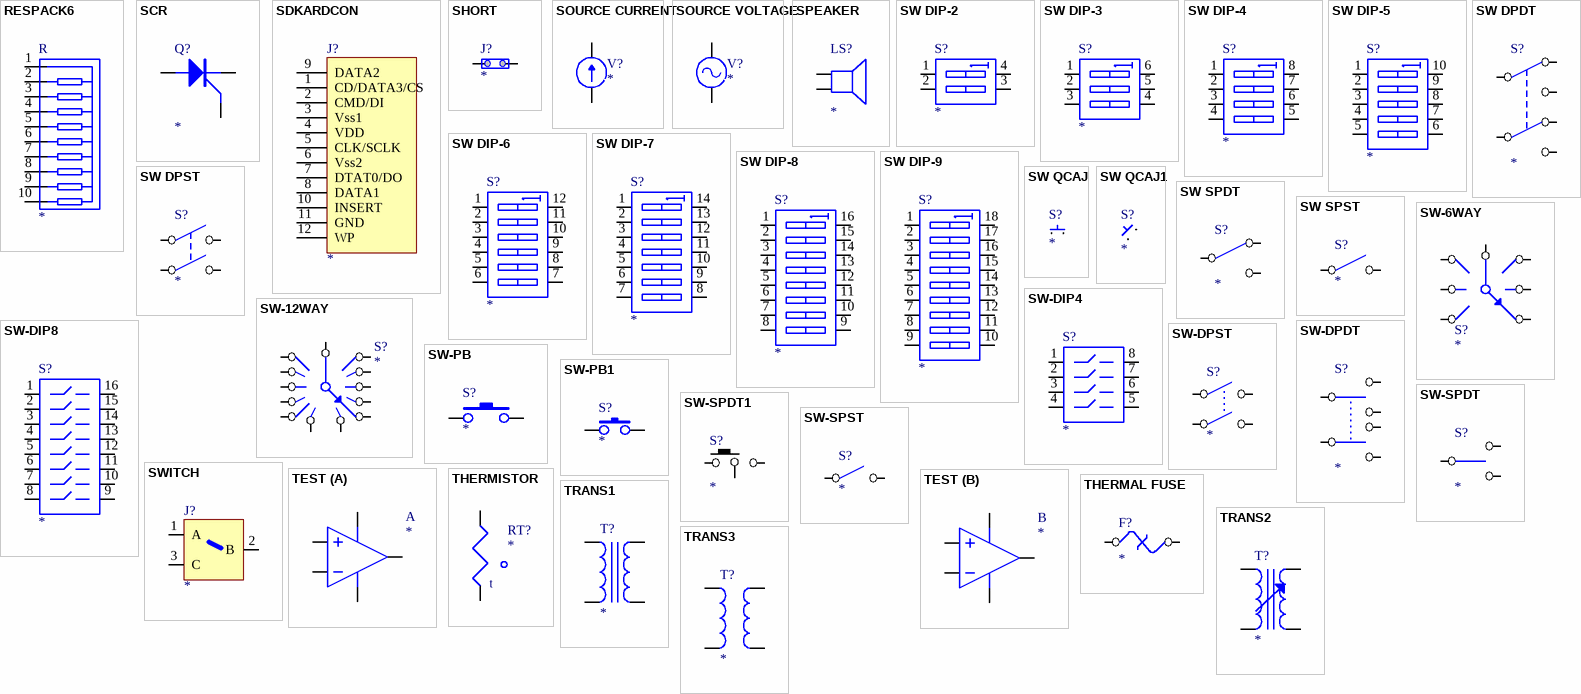
[diagram p7: symbols RESPACK6 to TRANS3]

## RESPACK6
designator R
footprint SIP10
pins: 1, 2, 3, 4, 5, 6, 7, 8, 9, 10
2 alternate drawings of the same symbol

## SCR
designator Q?
pins: 1 K, 2 A, 3 G
2 alternate drawings of the same symbol

## SDKARDCON
designator J?
footprint SDCARD
pins: 1 CD/DATA3/CS, 2 CMD/DI, 3 Vss1, 4 VDD, 5 CLK/SCLK, 6 Vss2, 7 DTAT0/DO, 8 DATA1, 9 DATA2, 10 INSERT, 11 GND, 12 WP
2 alternate drawings of the same symbol

## SHORT
designator J?
footprint SIP2
pins: 1, 2
2 alternate drawings of the same symbol

## SOURCE CURRENT
designator V?
pins: 1, 2
2 alternate drawings of the same symbol

## SOURCE VOLTAGE
designator V?
pins: 1, 2
2 alternate drawings of the same symbol

## SPEAKER
designator LS?
pins: 1, 2
2 alternate drawings of the same symbol

## SW DIP-2
designator S?
DIP Switch
pins: 1 A1, 2 A2, 3 B2, 4 B1
2 alternate drawings of the same symbol

## SW DIP-3
designator S?
DIP Switch
pins: 1 A1, 2 A2, 3 A3, 4 B3, 5 B2, 6 B1
2 alternate drawings of the same symbol

## SW DIP-4
designator S?
DIP Switch
pins: 1 A1, 2 A2, 3 A3, 4 A4, 5 B4, 6 B3, 7 B2, 8 B1
2 alternate drawings of the same symbol

## SW DIP-5
designator S?
DIP Switch
pins: 1 A1, 2 A2, 3 A3, 4 A4, 5 A5, 6 B5, 7 B4, 8 B3, 9 B2, 10 B1
2 alternate drawings of the same symbol

## SW DIP-6
designator S?
DIP Switch
pins: 1 A1, 2 A2, 3 A3, 4 A4, 5 A5, 6 A6, 7 B6, 8 B5, 9 B4, 10 B3, 11 B2, 12 B1
2 alternate drawings of the same symbol

## SW DIP-7
designator S?
DIP Switch
pins: 1 A1, 2 A2, 3 A3, 4 A4, 5 A5, 6 A6, 7 A7, 8 B7, 9 B6, 10 B5, 11 B4, 12 B3, 13 B2, 14 B1
2 alternate drawings of the same symbol

## SW DIP-8
designator S?
DIP Switch
pins: 1 A1, 2 A2, 3 A3, 4 A4, 5 A5, 6 A6, 7 A7, 8 A8, 9 B8, 10 B7, 11 B6, 12 B5, 13 B4, 14 B3, 15 B2, 16 B1
2 alternate drawings of the same symbol

## SW DIP-9
designator S?
DIP Switch
pins: 1 A1, 2 A2, 3 A3, 4 A4, 5 A5, 6 A6, 7 A7, 8 A8, 9 A9, 10 B9, 11 B8, 12 B7, 13 B6, 14 B5, 15 B4, 16 B3, 17 B2, 18 B1
2 alternate drawings of the same symbol

## SW DPDT
designator S?
pins: 1 COMMON1, 2 NC1, 3 NO1, 4 NC2, 5 COMMON2, 6 NO2
2 alternate drawings of the same symbol

## SW DPST
designator S?
pins: 1 COMMON1, 2 NO1, 3 COMMON2, 4 NO2
2 alternate drawings of the same symbol

## SW QCAJ
designator S?
footprint QCAJ
pins: 1, 2
2 alternate drawings of the same symbol

## SW QCAJ1
designator S?
footprint QCAJ
pins: 1, 2
2 alternate drawings of the same symbol

## SW SPDT
designator S?
footprint BDKG3
footprint BDKG1
pins: 1 NC, 2 COMMON, 3 NO
2 alternate drawings of the same symbol

## SW SPST
designator S?
footprint QCAJ
pins: 1 COMMON, 2 NO
2 alternate drawings of the same symbol

## SW-6WAY
designator S?
pins: 1, 2, 3, 4, 5, 6, 7
2 alternate drawings of the same symbol

## SW-12WAY
designator S?
pins: 1, 2, 3, 4, 5, 6, 7, 8, 9, 10, 11, 12, 13
2 alternate drawings of the same symbol

## SW-DIP4
designator S?
footprint DIP-8
pins: 1, 2, 3, 4, 5, 6, 7, 8
2 alternate drawings of the same symbol

## SW-DIP8
designator S?
footprint DIP-16
pins: 1, 2, 3, 4, 5, 6, 7, 8, 9, 10, 11, 12, 13, 14, 15, 16
2 alternate drawings of the same symbol

## SW-DPDT
designator S?
pins: 1, 2, 3, 4, 5, 6
2 alternate drawings of the same symbol

## SW-DPST
designator S?
pins: 1, 2, 3, 4
2 alternate drawings of the same symbol

## SW-PB
designator S?
footprint QCAJ
footprint QCAJD
pins: 1, 2
2 alternate drawings of the same symbol

## SW-PB1
designator S?
footprint QCAJ
footprint QCAJD
pins: 1, 2
2 alternate drawings of the same symbol

## SW-SPDT
designator S?
pins: 1, 2, 2
2 alternate drawings of the same symbol

## SW-SPDT1
designator S?
footprint BDKG1
footprint BDKG2
footprint BDKG3
footprint BDKG4
pins: 1, 2, 3
2 alternate drawings of the same symbol

## SW-SPST
designator S?
pins: 1, 2
2 alternate drawings of the same symbol

## SWITCH
designator J?
footprint SIP3
pins: 1 A, 2 B, 3 C
2 alternate drawings of the same symbol

## TEST
designator ?
part A pins: 1 IN-, 2 IN+, 3 V-, 4 OUT, 5 V+
part B pins: 1 IN-, 2 IN+, 3 V-, 4 OUT, 5 V+
2 alternate drawings of the same symbol

## THERMAL FUSE
designator F?
pins: 1, 2
2 alternate drawings of the same symbol

## THERMISTOR
designator RT?
pins: 1, 2
2 alternate drawings of the same symbol
text: t

## TRANS1
designator T?
footprint ELDG1
footprint ELDG2
footprint ELDG3
pins: 1, 2, 3, 4
2 alternate drawings of the same symbol

## TRANS2
designator T?
pins: 1, 2, 3, 4
2 alternate drawings of the same symbol

## TRANS3
designator T?
pins: 1, 2, 3, 4
2 alternate drawings of the same symbol

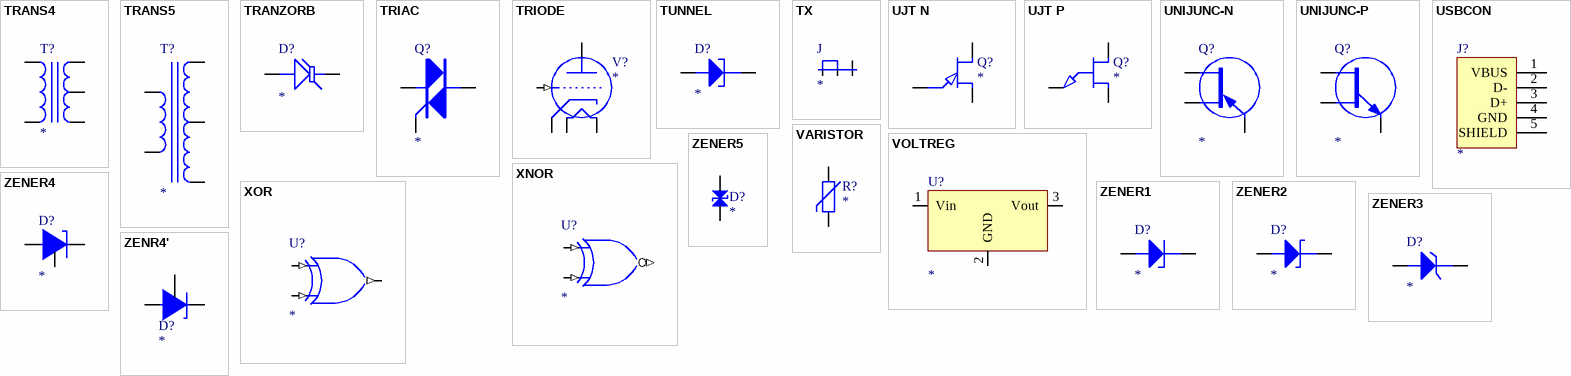
[diagram p8: symbols TRANS4 to ZENR4']

## TRANS4
designator T?
pins: 1, 2, 3, 4, 5
2 alternate drawings of the same symbol

## TRANS5
designator T?
pins: 1, 2, 3, 4, 5
2 alternate drawings of the same symbol

## TRANZORB
designator D?
pins: 1 A, 2 K
2 alternate drawings of the same symbol

## TRIAC
designator Q?
pins: 1 T1, 2 T2, 3 G
2 alternate drawings of the same symbol

## TRIODE
designator V?
Thyratron
pins: 1 GRID (in), 2 PLATE, 3 CATHODE, 4 FILAMENT1, 5 FILAMENT2
2 alternate drawings of the same symbol

## TUNNEL
designator D?
Tunnel FDiode
pins: 1 A, 2 K
2 alternate drawings of the same symbol

## TX
designator J
footprint SIP3
pins: 1, 2, 3
2 alternate drawings of the same symbol

## UJT N
designator Q?
pins: 1 E, 2 B2, 3 B1
2 alternate drawings of the same symbol

## UJT P
designator Q?
pins: 1 E, 2 B1, 3 B2
2 alternate drawings of the same symbol

## UNIJUNC-N
designator Q?
pins: 1 B1, 2 B2, 3 E
2 alternate drawings of the same symbol

## UNIJUNC-P
designator Q?
pins: 1 B1, 2 B2, 3 E
2 alternate drawings of the same symbol

## USBCON
designator J?
footprint USB-FLATF
footprint USB-FLATM
footprint USB-SQUAREF
footprint USB-MINI
pins: 1 VBUS, 2 D-, 3 D+, 4 GND, 5 SHIELD
2 alternate drawings of the same symbol

## VARISTOR
designator R?
pins: 1, 2
2 alternate drawings of the same symbol

## VOLTREG
designator U?
footprint TO220H
pins: 1 Vin, 2 GND, 3 Vout
2 alternate drawings of the same symbol

## XNOR
designator U?
XNOR Gate
pins: 1 A (in), 2 B (in), 3 Y (out)
2 alternate drawings of the same symbol

## XOR
designator U?
XOR Gate
pins: 1 A (in), 2 B (in), 3 Y (out)
2 alternate drawings of the same symbol

## ZENER1
designator D?
Zener Diode
footprint DIODE0.4
footprint SIP2
pins: A 1, K 2
2 alternate drawings of the same symbol

## ZENER2
designator D?
Zener Diode
footprint DIODE0.4
footprint DIODE0.7
pins: A, K
2 alternate drawings of the same symbol

## ZENER3
designator D?
Zener Diode
footprint DIODE0.4
footprint DIODE0.7
pins: 1 A, 2 K
2 alternate drawings of the same symbol

## ZENER4
designator D?
footprint TO-92C
footprint TO-92A
footprint TO-92B
pins: 1 R, 2 A, 3 C
2 alternate drawings of the same symbol

## ZENER5
designator D?
footprint AXIAL0.4
footprint AXIAL0.6
pins: 1, 2
2 alternate drawings of the same symbol

## ZENR4'
designator D?
footprint TO-92A
footprint TO-92B
footprint TO-92C
pins: 1 R, 2 A, 3 K
2 alternate drawings of the same symbol